# EAGLE library part DS2E-L-* (library relay)
DS-RELAYS HIGHLY SENSITIVE 1500 V FCC SURGE NAiS WITHSTANDING MINIATURE RELAY Source: Panasonic data sheet <http://www.panasonic-electric-works.de/catalogues/downloads/relays/ds_61005_en_ds.pdf>
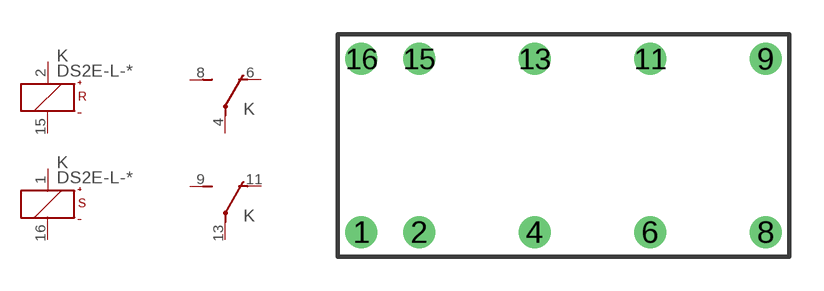
[diagram p101: symbol with the pads of DS2E-L; footprint DS2E-L]

Designator prefix K; gates 1=K+-R 2=K+-S 3=U 4=U

## DS2E-L-1.5V (OC_FARNELL: unknown; OC_NEWARK: unknown), DS2E-L-12V (OC_FARNELL: unknown; OC_NEWARK: unknown), DS2E-L-24V (MF: AROMAT/ MATSUSHITA; MPN: DS2E-SL-DC24V; OC_FARNELL: unknown; OC_NEWARK: 10C5812), DS2E-L-3V (OC_FARNELL: unknown; OC_NEWARK: unknown), DS2E-L-48V (OC_FARNELL: unknown; OC_NEWARK: unknown), DS2E-L-5V (MF: AROMAT/ MATSUSHITA; MPN: DS2E-SL-DC5V; OC_FARNELL: unknown; OC_NEWARK: 10C5815), DS2E-L-6V (OC_FARNELL: unknown; OC_NEWARK: unknown), DS2E-L-9V (OC_FARNELL: unknown; OC_NEWARK: unknown)  [DS2E-L]
1  2:+  pas
2  1:+  pas
4  3:P  pas
6  3:O  pas
8  3:S  pas
9  4:S  pas
11  4:O  pas
13  4:P  pas
15  1:-  pas
16  2:-  pas

## Footprint DS2E-L (pad centres in mm)
DS-RELAYS HIGHLY SENSITIVE 1500 V FCC SURGE NAiS WITHSTANDING MINIATURE RELAY Source: http://www.mew-europe.com/.. en_ds_61005_0001.pdf
drill 0.9: 1 -8.89,-3.81; 2 -6.35,-3.81; 4 -1.27,-3.81; 6 3.81,-3.81; 8 8.89,-3.81; 9 8.89,3.81; 11 3.81,3.81; 13 -1.27,3.81; 15 -6.35,3.81; 16 -8.89,3.81